# EAGLE library part CON_02X60 (library PP_Connectors)
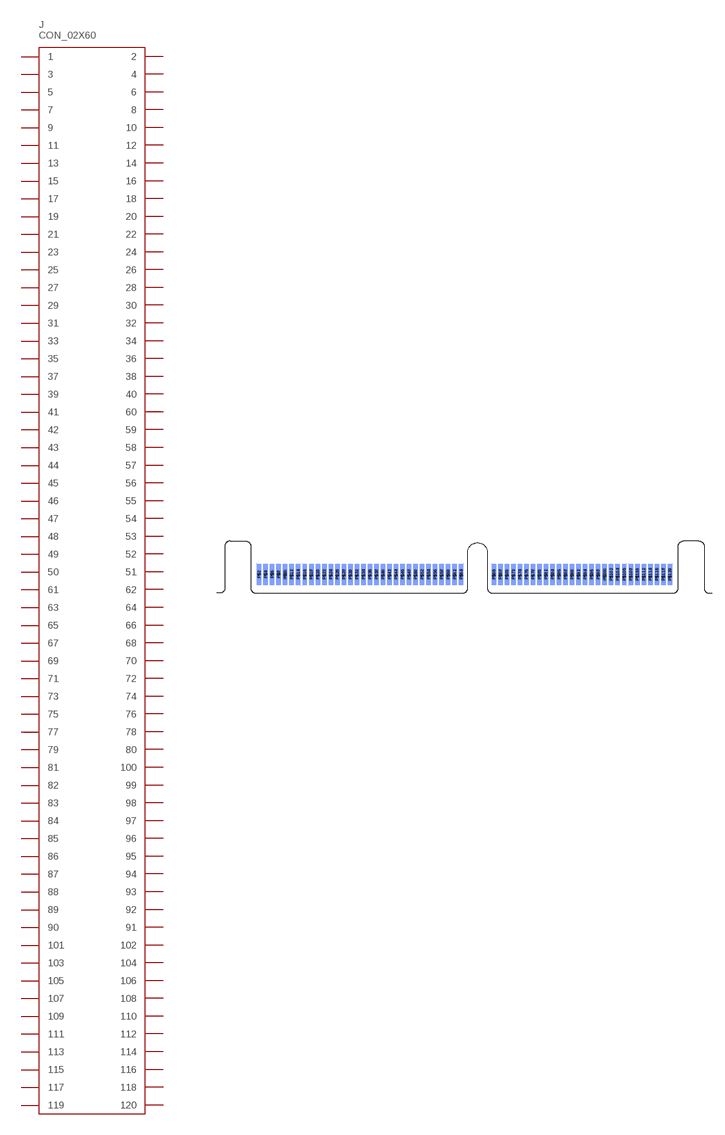
[diagram p21: symbol with the pads of 11216-060_CARDEDGE; footprint 11216-060_CARDEDGE]

Designator prefix J

## CON_02X60_11216-060_CARDEDGE (POPULATE: 1)  [11216-060_CARDEDGE]
P$1  1
P$2  2
P$3  3
P$4  4
P$5  5
P$6  6
P$7  7
P$8  8
P$9  9
P$10  10
P$11  11
P$12  12
P$13  13
P$14  14
P$15  15
P$16  16
P$17  17
P$18  18
P$19  19
P$20  20
P$21  21
P$22  22
P$23  23
P$24  24
P$25  25
P$26  26
P$27  27
P$28  28
P$29  29
P$30  30
P$31  31
P$32  32
P$33  33
P$34  34
P$35  35
P$36  36
P$37  37
P$38  38
P$39  39
P$40  40
P$41  41
P$42  42
P$43  43
P$44  44
P$45  45
P$46  46
P$47  47
P$48  48
P$49  49
P$50  50
P$51  51
P$52  52
P$53  53
P$54  54
P$55  55
P$56  56
P$57  57
P$58  58
P$59  59
P$60  60
P$61  61
P$62  62
P$63  63
P$64  64
P$65  65
P$66  66
P$67  67
P$68  68
P$69  69
P$70  70
P$71  71
P$72  72
P$73  73
P$74  74
P$75  75
P$76  76
P$77  77
P$78  78
P$79  79
P$80  80
P$81  81
P$82  82
P$83  83
P$84  84
P$85  85
P$86  86
P$87  87
P$88  88
P$89  89
P$90  90
P$91  91
P$92  92
P$93  93
P$94  94
P$95  95
P$96  96
P$97  97
P$98  98
P$99  99
P$100  100
P$101  101
P$102  102
P$103  103
P$104  104
P$105  105
P$106  106
P$107  107
P$108  108
P$109  109
P$110  110
P$111  111
P$112  112
P$113  113
P$114  114
P$115  115
P$116  116
P$117  117
P$118  118
P$119  119
P$120  120

## Footprint 11216-060_CARDEDGE (pad centres in mm)
smd 0.55 x 2.6: P$1 5.2,2.3; P$3 6,2.3; P$5 6.8,2.3; P$7 7.6,2.3; P$9 8.4,2.3; P$11 9.2,2.3; P$13 10,2.3; P$15 10.8,2.3; P$17 11.6,2.3; P$19 12.4,2.3; P$21 13.2,2.3; P$23 14,2.3; P$25 14.8,2.3; P$27 15.6,2.3; P$29 16.4,2.3; P$31 17.2,2.3; P$33 18,2.3; P$35 18.8,2.3; P$37 19.6,2.3; P$39 20.4,2.3; P$41 21.2,2.3; P$43 22,2.3; P$45 22.8,2.3; P$47 23.6,2.3; P$49 24.4,2.3; P$51 25.2,2.3; P$53 26,2.3; P$55 26.8,2.3; P$57 27.6,2.3; P$59 28.4,2.3; P$61 29.2,2.3; P$63 30,2.3; P$65 34,2.3; P$67 34.8,2.3; P$69 35.6,2.3; P$71 36.4,2.3; P$73 37.2,2.3; P$75 38,2.3; P$77 38.8,2.3; P$79 39.6,2.3; P$81 40.4,2.3; P$83 41.2,2.3; P$85 42,2.3; P$87 42.8,2.3; P$89 43.6,2.3; P$91 44.4,2.3; P$93 45.2,2.3; P$95 46,2.3; P$97 46.8,2.3; P$99 47.6,2.3; P$101 48.4,2.3; P$103 49.2,2.3; P$105 50,2.3; P$107 50.8,2.3; P$109 51.6,2.3; P$111 52.4,2.3; P$113 53.2,2.3; P$115 54,2.3; P$117 54.8,2.3; P$119 55.6,2.3
smd 0.55 x 2.6 bottom: P$2 5.2,2.3; P$4 6,2.3; P$6 6.8,2.3; P$8 7.6,2.3; P$10 8.4,2.3; P$12 9.2,2.3; P$14 10,2.3; P$16 10.8,2.3; P$18 11.6,2.3; P$20 12.4,2.3; P$22 13.2,2.3; P$24 14,2.3; P$26 14.8,2.3; P$28 15.6,2.3; P$30 16.4,2.3; P$32 17.2,2.3; P$34 18,2.3; P$36 18.8,2.3; P$38 19.6,2.3; P$40 20.4,2.3; P$42 21.2,2.3; P$44 22,2.3; P$46 22.8,2.3; P$48 23.6,2.3; P$50 24.4,2.3; P$52 25.2,2.3; P$54 26,2.3; P$56 26.8,2.3; P$58 27.6,2.3; P$60 28.4,2.3; P$62 29.2,2.3; P$64 30,2.3; P$66 34,2.3; P$68 34.8,2.3; P$70 35.6,2.3; P$72 36.4,2.3; P$74 37.2,2.3; P$76 38,2.3; P$78 38.8,2.3; P$80 39.6,2.3; P$82 40.4,2.3; P$84 41.2,2.3; P$86 42,2.3; P$88 42.8,2.3; P$90 43.6,2.3; P$92 44.4,2.3; P$94 45.2,2.3; P$96 46,2.3; P$98 46.8,2.3; P$100 47.6,2.3; P$102 48.4,2.3; P$104 49.2,2.3; P$106 50,2.3; P$108 50.8,2.3; P$110 51.6,2.3; P$112 52.4,2.3; P$114 53.2,2.3; P$116 54,2.3; P$118 54.8,2.3; P$120 55.6,2.3